# EAGLE library part 74HC74 (library IC)
Dual Full D FlipFlop
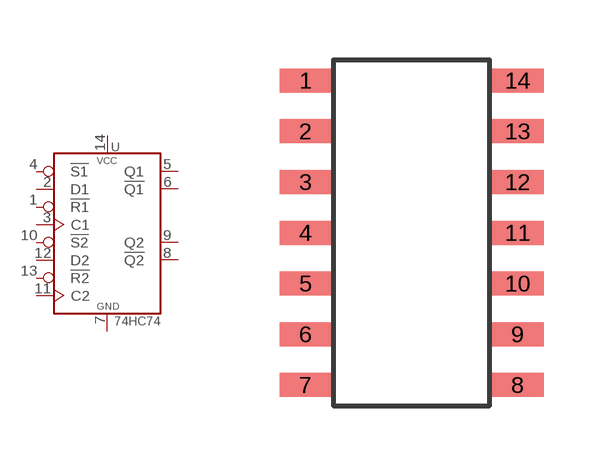
[diagram p20: symbol with the pads of SOIC-3.9MM-14; footprint SOIC-3.9MM-14]

Designator prefix U

## 74HC74 (MPN: 74HC74D,652)  [SOIC-3.9MM-14]
1  !R1
2  D1
3  C1
4  !S1
5  Q1
6  !Q1
7  GND
8  !Q2
9  Q2
10  !S2
11  C2
12  D2
13  !R2
14  VCC

## Footprint SOIC-3.9MM-14 (pad centres in mm)
smd 1.3 x 0.6: 1 -2.65,3.81; 2 -2.65,2.54; 3 -2.65,1.27; 4 -2.65,0; 5 -2.65,-1.27; 6 -2.65,-2.54; 7 -2.65,-3.81; 8 2.65,-3.81; 9 2.65,-2.54; 10 2.65,-1.27; 11 2.65,0; 12 2.65,1.27; 13 2.65,2.54; 14 2.65,3.81